# EAGLE library part HV210-SM02-R (library HV210-SM02-R)
Board Mount Pressure Sensors 10 inWC, Dual Die Source: Datasheet
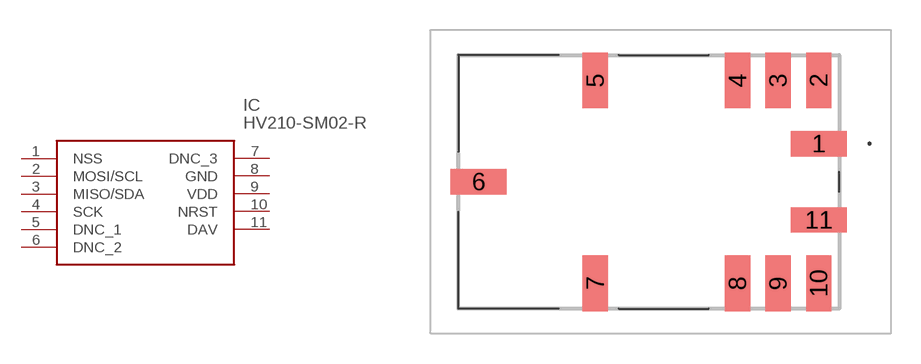
[diagram p0: symbol with the pads of HV210SM02R; footprint HV210SM02R]

Designator prefix IC

## HV210-SM02-R (Description: Board Mount Pressure Sensors 10 inWC, Dual Die; Height: 9.754mm; Manufacturer_Name: Superior Sensor; Manufacturer_Part_Number: HV210-SM02-R; Mouser_Part_Number: 211-HV210-SM02-R; Mouser_Price-Stock: https://www.mouser.co.uk/ProductDetail/Superior-Sensor/HV210-SM02-R?qs=vLWxofP3U2zWpu4kpA4tNA%3D%3D)  [HV210SM02R]
1  NSS
2  MOSI/SCL
3  MISO/SDA
4  SCK
5  DNC_1
6  DNC_2
7  DNC_3
8  GND
9  VDD
10  NRST
11  DAV

## Footprint HV210SM02R (pad centres in mm)
HV210-SM02-R-3
smd 2.79 x 1.27: 1 8.51,1.91; 6 -8.51,0; 11 8.51,-1.91
smd 1.27 x 2.79: 2 8.51,5.08; 3 6.48,5.08; 4 4.45,5.08; 5 -2.67,5.08; 7 -2.67,-5.08; 8 4.45,-5.08; 9 6.48,-5.08; 10 8.51,-5.08